# EAGLE library part K (library kenh)
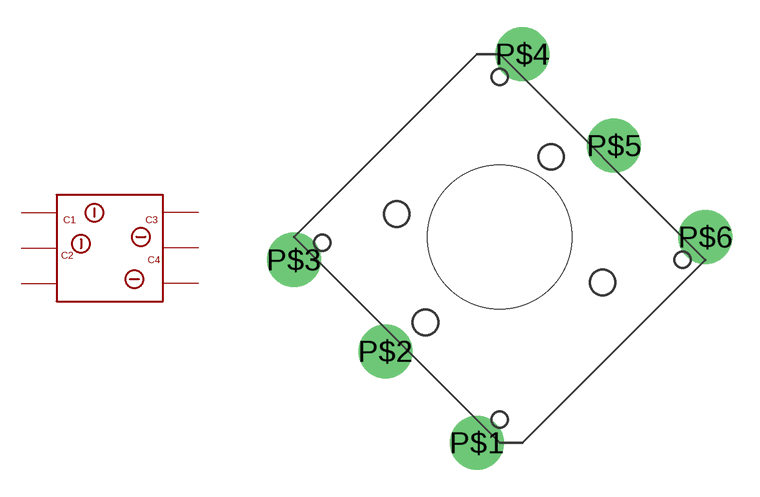
[diagram p0: symbol with the pads of K; footprint K]

Designator prefix K

## K  [K]
P$1  P$1
P$2  P$2
P$3  P$3
P$4  P$4
P$5  P$5
P$6  P$6

## Footprint K (pad centres in mm)
drill 2 pad 2.184 round: P$1 -1.27,-11.43; P$2 -6.35,-6.35; P$3 -11.43,-1.27; P$4 1.27,10.16; P$5 6.35,5.08; P$6 11.43,0
hole 8 at 0,0